# Altium schematic symbol library Schlib1.SchLib: 12 symbols
Pins are listed as number, name and electrical type; pins without a type are passive.

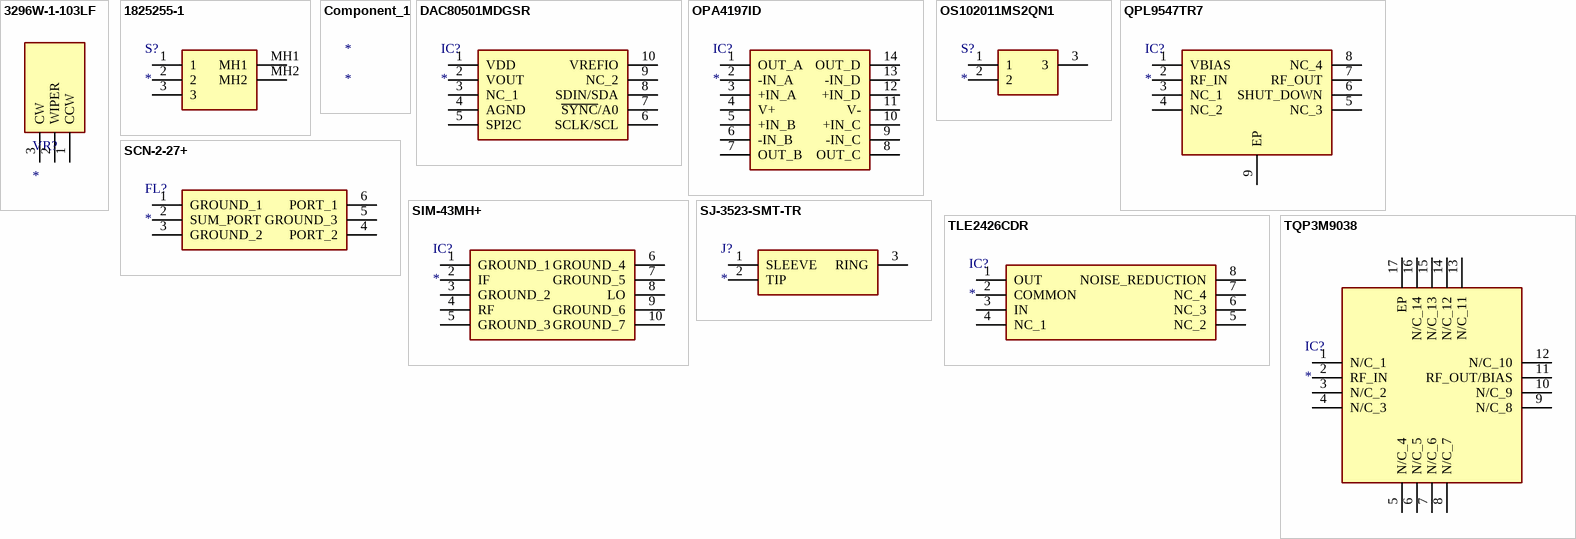
[diagram p0: symbols 3296W-1-103LF to TQP3M9038]

## 3296W-1-103LF
designator VR?
Variable Resistor; Manufacturer_Name: Bourns; Manufacturer_Part_Number: 3296W-1-103LF; Description: Trimmer Resistors - Through Hole 3/8" 10Kohms Sealed Vertical Adjust; Datasheet Link: https://www.bourns.com/pdfs/3296.pdf; Height: 10.28mm; Mouser Part Number: 652-3296W-1-103LF; Mouser Price/Stock: https://www.mouser.co.uk/ProductDetail/Bourns/3296W-1-103LF?qs=CL3xLxiry19Id6AEaxYcng%3D%3D; Arrow Part Number: 3296W-1-103LF; Arrow Price/Stock: https://www.arrow.com/en/products/3296w-1-103lf/bourns.html?utm_currency=USD&region=europe
footprint 3296W1503LF
pins: 1 CCW, 2 WIPER, 3 CW

## 1825255-1
designator S?
Switch; Manufacturer_Name: TE Connectivity; Manufacturer_Part_Number: 1825255-1; Description: Body Features: Actuator Color Black | Actuator Profile Extended | Actuator Orientation Top | Product Orientation Vertical | Actuator Material POM | Actuator Travel .158 INCH | Actuator Travel 4 MM | Configuration Features: Number of Positions 2 | Configuration (Pole-Throw) Single Pole - Double Throw | Number of Actuators Single | Terminals Connected 2-1 | Operating Function On None On | Contact Features: Switch Contact Plating Material Silver | Contact Base Material Copper Alloy | Contact Current Rating .3; Datasheet Link: https://www.te.com/commerce/DocumentDelivery/DDEController?Action=srchrtrv&DocNm=1308111-1_SWITCHES_CORE_PROGRAM_CATALOG&DocType=Catalog%20Section&DocLang=English&PartCntxt=1825255-1&DocFormat=pdf; Height: 12.3mm; Arrow Part Number: 1825255-1; Arrow Price/Stock: https://www.arrow.com/en/products/1825255-1/te-connectivity?utm_currency=USD&region=nac
footprint 18252551
pins: 1, 2, 3, MH1, MH2

## Component_1
designator *

## DAC80501MDGSR
designator IC?
Integrated Circuit; Manufacturer_Name: Texas Instruments; Manufacturer_Part_Number: DAC80501MDGSR; Datasheet Link: https://www.ti.com/lit/gpn/DAC80501; Height: 1.1mm; Mouser Part Number: 595-DAC80501MDGSR; Mouser Price/Stock: https://www.mouser.co.uk/ProductDetail/Texas-Instruments/DAC80501MDGSR?qs=%252B6g0mu59x7JZMs1JuGefUg%3D%3D; Arrow Part Number: DAC80501MDGSR; Arrow Price/Stock: https://www.arrow.com/en/products/dac80501mdgsr/texas-instruments.html?utm_currency=USD&region=nac
footprint SOP50P490X110-10N
pins: 1 VDD, 2 VOUT, 3 NC_1, 4 AGND, 5 SPI2C, 6 SCLK/SCL, 7 ~{SYNC}/A0, 8 SDIN/SDA, 9 NC_2, 10 VREFIO

## OPA4197ID
designator IC?
Integrated Circuit; Manufacturer_Name: Texas Instruments; Manufacturer_Part_Number: OPA4197ID; Datasheet Link: http://www.ti.com/lit/gpn/OPA4197; Height: 1.75mm; Mouser Part Number: 595-OPA4197ID; Mouser Price/Stock: https://www.mouser.co.uk/ProductDetail/Texas-Instruments/OPA4197ID?qs=LuYMPh7GGMRrQsevs5FGag%3D%3D; Arrow Part Number: OPA4197ID; Arrow Price/Stock: https://www.arrow.com/en/products/opa4197id/texas-instruments?utm_currency=USD&region=nac
footprint SOIC127P600X175-14N
pins: 1 OUT_A, 2 -IN_A, 3 +IN_A, 4 V+, 5 +IN_B, 6 -IN_B, 7 OUT_B, 8 OUT_C, 9 -IN_C, 10 +IN_C, 11 V-, 12 +IN_D, 13 -IN_D, 14 OUT_D

## OS102011MS2QN1
designator S?
Switch; Manufacturer_Name: LITTELFUSE; Manufacturer_Part_Number: OS102011MS2QN1; Description: Switch Slide Miniature SPDT 0.1A 12VDC Through Hole Slide Switch SPDT On-On 0.1 A@ 12 V dc Slide; Datasheet Link: https://www.ckswitches.com/media/1428/os.pdf; Mouser Part Number: 611-OS102011MS2QN1; Mouser Price/Stock: https://www.mouser.co.uk/ProductDetail/CK/OS102011MS2QN1?qs=WtljUlYws5RvQ1hEv876nQ%3D%3D; Arrow Part Number: OS102011MS2QN1; Arrow Price/Stock: https://www.arrow.com/en/products/os102011ms2qn1/ck?utm_currency=USD&region=europe
footprint OS102011MA1QN1
pins: 1, 2, 3

## QPL9547TR7
designator IC?
Integrated Circuit; Manufacturer_Name: Qorvo; Manufacturer_Part_Number: QPL9547TR7; Datasheet Link: https://www.qorvo.com/products/d/da007268; Height: 0.95mm; Mouser Part Number: 772-QPL9547TR7; Mouser Price/Stock: https://www.mouser.co.uk/ProductDetail/Qorvo/QPL9547TR7?qs=7MVldsJ5UaxZMCnAEuCHXA%3D%3D
footprint SON50P200X200X95-9N-D
pins: 1 VBIAS, 2 RF_IN, 3 NC_1, 4 NC_2, 5 NC_3, 6 SHUT_DOWN, 7 RF_OUT, 8 NC_4, 9 EP

## SCN-2-27+
designator FL?
Filter; Manufacturer_Name: Mini-Circuits; Manufacturer_Part_Number: SCN-2-27+; Datasheet Link: https://www.minicircuits.com/WebStore/dashboardPdf?model=SCN-2-27%2B; Height: 1.068mm; Mouser Part Number: 139-SCN-2-27; Mouser Price/Stock: https://www.mouser.co.uk/ProductDetail/Mini-Circuits/SCN-2-27%2b?qs=xZ%2FP%252Ba9zWqZ9BqpGqNwa3Q%3D%3D
footprint SCN227
pins: 1 GROUND_1, 2 SUM_PORT, 3 GROUND_2, 4 PORT_2, 5 GROUND_3, 6 PORT_1

## SIM-43MH+
designator IC?
Integrated Circuit; Manufacturer_Name: Mini-Circuits; Manufacturer_Part_Number: SIM-43MH+; Datasheet Link: https://www.minicircuits.com/pdfs/SIM-43MH+.pdf; Height: 2.2098mm; Mouser Part Number: 139-SIM-43MH; Mouser Price/Stock: https://www.mouser.co.uk/ProductDetail/Mini-Circuits/SIM-43MH%2b?qs=xZ%2FP%252Ba9zWqY1tFzO9OHPtQ%3D%3D
footprint SIM43MH
pins: 1 GROUND_1, 2 IF, 3 GROUND_2, 4 RF, 5 GROUND_3, 6 GROUND_4, 7 GROUND_5, 8 LO, 9 GROUND_6, 10 GROUND_7

## SJ-3523-SMT-TR
designator J?
Connector; Manufacturer_Name: Same Sky; Manufacturer_Part_Number: SJ-3523-SMT-TR; Description: 3.5 mm; Datasheet Link: https://www.sameskydevices.com/product/resource/sj-352x-smt.pdf; Height: 5.2mm; Mouser Part Number: 490-SJ-3523-SMT-TR; Mouser Price/Stock: https://www.mouser.co.uk/ProductDetail/CUI-Devices/SJ-3523-SMT-TR?qs=WyjlAZoYn51zOHzJ3r4ZRA%3D%3D; Arrow Part Number: SJ-3523-SMT-TR; Arrow Price/Stock: https://www.arrow.com/en/products/sj-3523-smt-tr_4/cui-devices.html?utm_currency=USD&region=nac
footprint SJ3523SMTTR
pins: 1 SLEEVE, 2 TIP, 3 RING

## TLE2426CDR
designator IC?
Integrated Circuit; Manufacturer_Name: Texas Instruments; Manufacturer_Part_Number: TLE2426CDR; Datasheet Link: http://www.ti.com/lit/gpn/TLE2426; Height: 1.75mm; Mouser Part Number: 595-TLE2426CDR; Mouser Price/Stock: https://www.mouser.co.uk/ProductDetail/Texas-Instruments/TLE2426CDR?qs=JbBXx2IvYcd3mBRQbzOwQw%3D%3D; Arrow Part Number: TLE2426CDR; Arrow Price/Stock: https://www.arrow.com/en/products/tle2426cdr/texas-instruments.html?utm_currency=USD&region=nac
footprint SOIC127P600X175-8N
pins: 1 OUT, 2 COMMON, 3 IN, 4 NC_1, 5 NC_2, 6 NC_3, 7 NC_4, 8 NOISE_REDUCTION

## TQP3M9038
designator IC?
Integrated Circuit; Manufacturer_Name: Qorvo; Manufacturer_Part_Number: TQP3M9038; Datasheet Link: http://www.qorvo.com/products/d/da005557; Height: 0.9mm; Mouser Part Number: 772-TQP3M9038; Mouser Price/Stock: https://www.mouser.co.uk/ProductDetail/Qorvo/TQP3M9038?qs=ZyJ8JrQCoIZ8y9AEz%2F0DcQ%3D%3D
footprint QFN50P300X300X90-17N-D
pins: 1 N/C_1, 2 RF_IN, 3 N/C_2, 4 N/C_3, 5 N/C_4, 6 N/C_5, 7 N/C_6, 8 N/C_7, 9 N/C_8, 10 N/C_9, 11 RF_OUT/BIAS, 12 N/C_10, 13 N/C_11, 14 N/C_12, 15 N/C_13, 16 N/C_14, 17 EP